# EAGLE library part S6B-PH-K-S(LF)(SN) (library S6B-PH-K-S_LF__SN_)
PH Series 6 Position 2 mm Pitch Through Hole Side Entry Shrouded Header
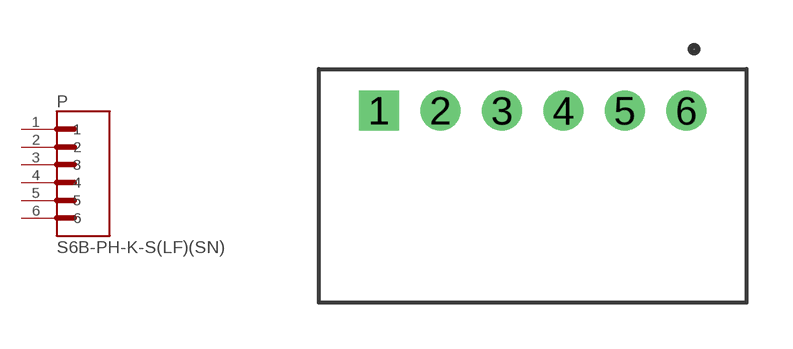
[diagram p0: symbol with the pads of JST_S6B-PH-K-S(LF)(SN); footprint JST_S6B-PH-K-S(LF)(SN)]

Designator prefix P

## S6B-PH-K-S(LF)(SN) (Description: PH Series 6 Position 2 mm Pitch Through Hole Side Entry Shrouded Header; Digi-Key_Part_Number: 455-1723-ND; Digi-Key_Purchase_URL: https://www.digikey.com/product-detail/en/jst-sales-america-inc/S6B-PH-K-S_LF__SN_/455-1723-ND/926630?utm_source=snapeda&utm_medium=aggregator&utm_campaign=symbol; MF: JST Sales; MP: S6B-PH-K-S_LF__SN_; Package: None)  [JST_S6B-PH-K-S(LF)(SN)]
1  1  pas
2  2  pas
3  3  pas
4  4  pas
5  5  pas
6  6  pas

## Footprint JST_S6B-PH-K-S(LF)(SN) (pad centres in mm)
drill 0.8 square: 1 -5,0
drill 0.8: 2 -3,0; 3 -1,0; 4 1,0; 5 3,0; 6 5,0